# Altium footprint library lxdc2hl_18a.PcbLib: 1 footprints
Each footprint in its own frame and in the unit in brackets; x right, y up, seen from the top. Pads: shape width x height; smd on the part's side, far side on the other; paste and mask are expansions set on the pad; w line width, h text height; cw(c..) or ccw(c..) is an arc to the next point about the centre after c.
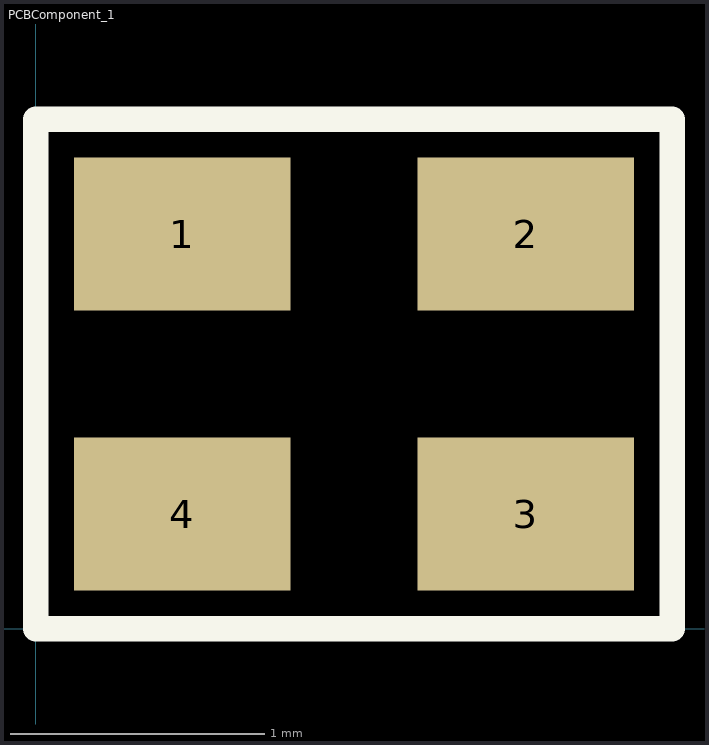
[diagram p0: the footprint, top view; thin cyan lines are the x and y axes]

## PCBComponent_1 [mm]
pads (4):
  rect 0.85x0.6 smd: 1(0.575,1.55) 2(1.925,1.55) 3(1.925,0.45) 4(0.575,0.45)
Top Overlay:
  lines w0.1: 0,0 0,2 2.5,2 2.5,0 0,0
  text "." at -0.25,2.15 h0.5